# Altium schematic symbol library RT9013-33GB.SCHLIB: 1 symbol
Pins are listed as number, name and electrical type; pins without a type are passive.

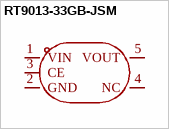
[diagram p0: symbol RT9013-33GB-JSM]

## RT9013-33GB-JSM
designator U??  (value not drawn)
Manufacturer: JSMSEMI(杰盛微); Add into BOM: yes; Symbol: RT9013-33GB-JSM; Device: RT9013-33GB-JSM; LCSC Part Name: RT9013-33GB-JSM; Supplier Part: C39846929; Manufacturer Part: RT9013-33GB-JSM; Supplier Footprint: SOT-23-5; JLCPCB Part Class: Extended Part; Datasheet: https://atta.szlcsc.com/upload/public/pdf/source/20240812/6C3DB71E826AA30FCDAD46145DB01E41.pdf; Supplier: LCSC; Convert to PCB: yes
footprint SOT-23-5_L2.9-W1.6-P0.95-LS2.8-BR
pins: 1 VIN, 2 GND, 3 CE, 4 NC, 5 VOUT